# Altium integrated library TLV1117-33IDCYR.IntLib: 1 symbol
Pins are listed as number, name and electrical type; pins without a type are passive.

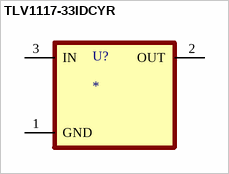
[diagram p0: symbol TLV1117-33IDCYR]

## TLV1117-33IDCYR
designator U?
footprint SOT230P700X180-4N
pins: 1 GND, 2 OUT, 3 IN